# EAGLE library part AT25DFXX1X-M (library john_mamish_assorted_digital_library)
Serial Peripheral Interface Serial Flash Memory
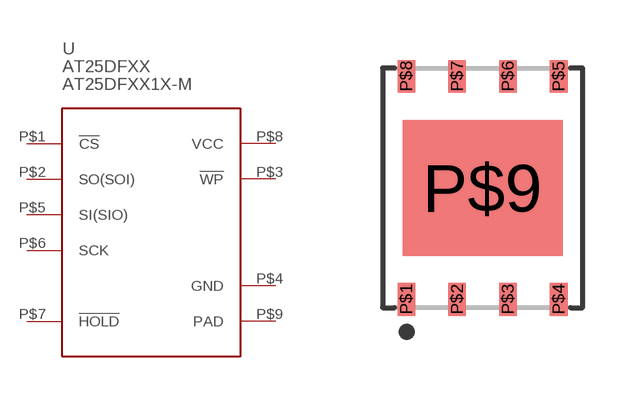
[diagram p1: symbol with the pads of 8MA1-UDFN; footprint 8MA1-UDFN]

Designator prefix U

## AT25DFXX1X-M  [8MA1-UDFN]
P$1  !CS!  in
P$2  SO(SOI)
P$3  !WP!  in
P$4  GND  pwr
P$5  SI(SIO)
P$6  SCK
P$7  !HOLD!  in
P$8  VCC  pwr
P$9  PAD  pwr

## Footprint 8MA1-UDFN (pad centres in mm)
smd 0.44 x 0.82: P$1 -1.905,-2.79; P$2 -0.635,-2.79; P$3 0.635,-2.79; P$4 1.905,-2.79; P$5 1.905,2.79; P$6 0.635,2.79; P$7 -0.635,2.79; P$8 -1.905,2.79
smd 4 x 3.4: P$9 0,0